# Altium footprint library SOT-23F.PcbLib: 1 footprints
Each footprint in its own frame and in the unit in brackets; x right, y up, seen from the top. Pads: shape width x height; smd on the part's side, far side on the other; paste and mask are expansions set on the pad; w line width, h text height; cw(c..) or ccw(c..) is an arc to the next point about the centre after c.
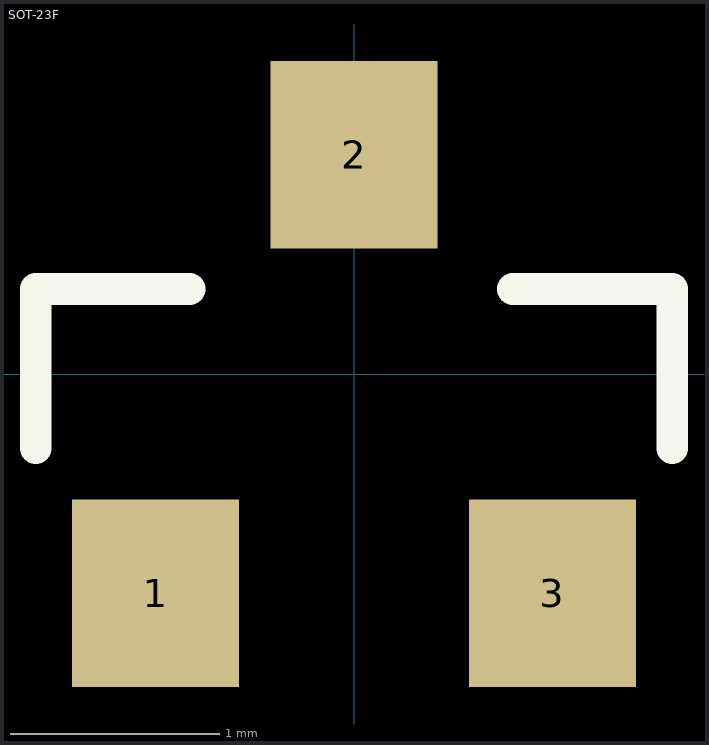
[diagram p0: the footprint, top view; thin cyan lines are the x and y axes]

## SOT-23F [mm] "SOT-23F"
pads (3):
  rect 0.8x0.9 smd: 1(-0.95,-1.05) 2(0,1.05) 3(0.95,-1.05)
Top Overlay:
  lines w0.152: -1.524,-0.356 -1.524,0.406 -0.787,0.406 ; 0.762,0.406 1.524,0.406 1.524,-0.356
3D body "SOT-23F.STEP": height 0.8, standoff 0, extent -1.45,-1.2 1.45,1.2